# EAGLE library part SID1182K (library Power > Gate Drivers)
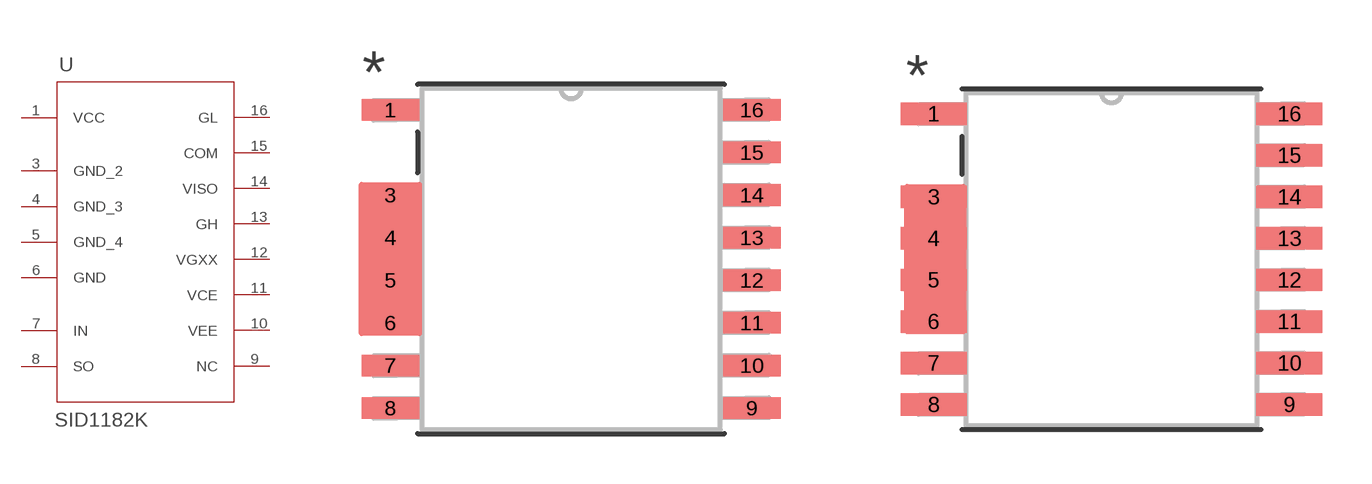
[diagram p2: symbol with the pads of ESOP-R16B; footprints ESOP-R16B, ESOP-R16B-M]

Designator prefix U

## SID1182K (MANUFACTURER_PART_NUMBER: SID1182K; VENDOR: Power Integrations)  [ESOP-R16B]
1  VCC  pas
3  GND_2  pas
4  GND_3  pas
5  GND_4  pas
6  GND  pas
7  IN  pas
8  SO  pas
9  NC  pas
10  VEE  pas
11  VCE  pas
12  VGXX  pas
13  GH  pas
14  VISO  pas
15  COM  pas
16  GL  pas

## SID1182KESOP-R16B-M (MANUFACTURER_PART_NUMBER: SID1182K; VENDOR: Power Integrations)  [ESOP-R16B-M]
Pads as for ESOP-R16B

## SID1182KESOP-R16B-L (MANUFACTURER_PART_NUMBER: SID1182K; VENDOR: Power Integrations)  [ESOP-R16B-L]
Pads as for ESOP-R16B

## Footprint ESOP-R16B (pad centres in mm)
smd 1.716 x 0.644: 1 -5.385,4.445; 3 -5.385,1.905; 4 -5.385,0.635; 5 -5.385,-0.635; 6 -5.385,-1.905; 7 -5.385,-3.175; 8 -5.385,-4.445; 9 5.385,-4.445; 10 5.385,-3.175; 11 5.385,-1.905; 12 5.385,-0.635; 13 5.385,0.635; 14 5.385,1.905; 15 5.385,3.175; 16 5.385,4.445

## Footprint ESOP-R16B-M (pad centres in mm)
smd 2.016 x 0.684: 1 -5.435,4.445; 3 -5.435,1.905; 4 -5.435,0.635; 5 -5.435,-0.635; 6 -5.435,-1.905; 7 -5.435,-3.175; 8 -5.435,-4.445; 9 5.435,-4.445; 10 5.435,-3.175; 11 5.435,-1.905; 12 5.435,-0.635; 13 5.435,0.635; 14 5.435,1.905; 15 5.435,3.175; 16 5.435,4.445

## Footprint ESOP-R16B-L (pad centres in mm)
smd 1.416 x 0.604: 1 -5.335,4.445; 3 -5.335,1.905; 4 -5.335,0.635; 5 -5.335,-0.635; 6 -5.335,-1.905; 7 -5.335,-3.175; 8 -5.335,-4.445; 9 5.335,-4.445; 10 5.335,-3.175; 11 5.335,-1.905; 12 5.335,-0.635; 13 5.335,0.635; 14 5.335,1.905; 15 5.335,3.175; 16 5.335,4.445